# EAGLE library part AD831 (library ic)
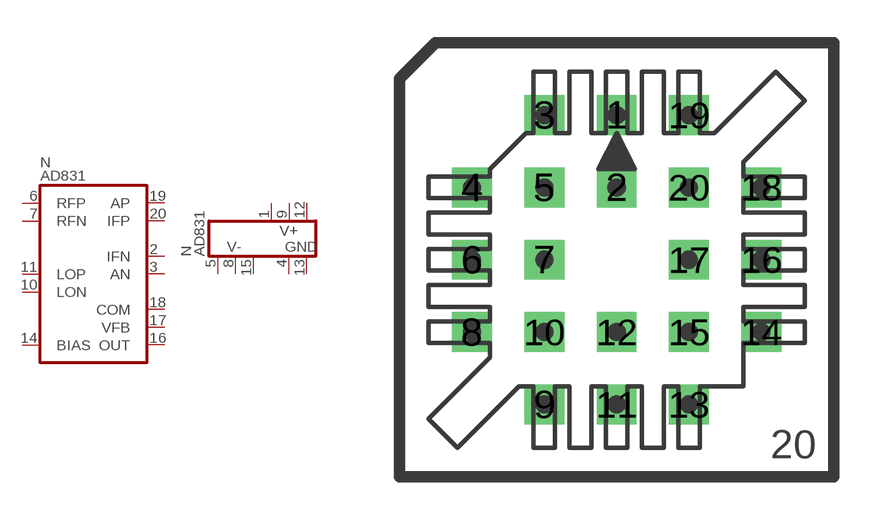
[diagram p25: symbol with the pads of PLCC20; footprint PLCC20]

Designator prefix N; gates  =AD831 P=VAD831

## AD831  [PLCC20]
1  P:V+  pwr
2   :IFN
3   :AN
4  P:GND  pwr
5  P:V-  pwr
6   :RFP  in
7   :RFN  in
8  P:V-  pwr
9  P:V+  pwr
10   :LON  in
11   :LOP  in
12  P:V+  pwr
13  P:GND  pwr
14   :BIAS  in
15  P:V-  pwr
16   :OUT  out
17   :VFB
18   :COM
19   :AP
20   :IFP

## Footprint PLCC20 (pad centres in mm)
drill 0.813 pad 1.397 square: 1 0,5.08; 2 0,2.54; 3 -2.54,5.08; 4 -5.08,2.54; 5 -2.54,2.54; 6 -5.08,0; 7 -2.54,0; 8 -5.08,-2.54; 9 -2.54,-5.08; 10 -2.54,-2.54; 11 0,-5.08; 12 0,-2.54; 13 2.54,-5.08; 14 5.08,-2.54; 15 2.54,-2.54; 16 5.08,0; 17 2.54,0; 18 5.08,2.54; 19 2.54,5.08; 20 2.54,2.54